# EAGLE library part VR2230-2 (library 0TRAFO)
TRANSFORMER 1 primary winding, 2 secondary windings, mounting holes BLOCK
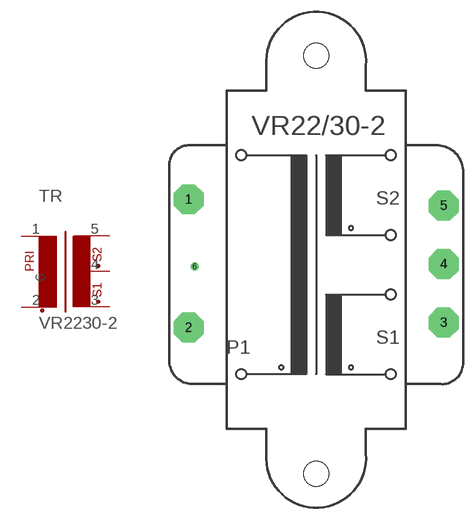
[diagram p2: symbol with the pads of VR22-2; footprint VR22-2]

Designator prefix TR

## VR2230-2  [VR22-2]
1  1  pas
2  2  pas
3  3  pas
4  4  pas
5  5  pas
6  6  pas

## Footprint VR22-2 (pad centres in mm)
TRANSFORMER 1 primary winding, 2 secondary windings, mounting holes
drill 1.397 pad 3.81 octagon: 1 -16.256,8.344; 2 -16.256,-8.026; 3 16.256,-7.391; 4 16.256,0.076; 5 16.256,7.544
drill 0.5 octagon: 6 -15.494,-0.229
hole 3.2 at 0,-26.67
hole 3.2 at 0,26.67